# EAGLE library part GIGABYTE_14P (library Connector)
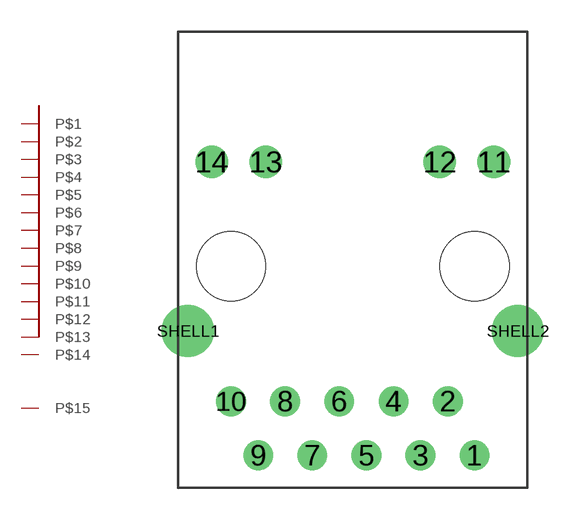
[diagram p7: symbol with the pads of GIGABYTE_RJ45; footprint GIGABYTE_RJ45]

Designator prefix -

## GIGABYTE_14P  [GIGABYTE_RJ45]
1  P$1
2  P$2
3  P$3
4  P$4
5  P$5
6  P$6
7  P$7
8  P$8
9  P$9
10  P$10
11  P$11
12  P$12
13  P$13
14  P$14
SHELL1  P$15
SHELL2  P$15

## Footprint GIGABYTE_RJ45 (pad centres in mm)
drill 0.89: 1 5.72,-8.89; 2 4.46,-6.35; 3 3.18,-8.89; 4 1.92,-6.35; 5 0.64,-8.89; 6 -0.64,-6.35; 7 -1.9,-8.89; 8 -3.18,-6.35; 9 -4.44,-8.89; 10 -5.72,-6.35
drill 1.02: 11 6.625,4.9; 12 4.085,4.9; 13 -4.085,4.9; 14 -6.625,4.9
drill 1.63: SHELL1 -7.745,-3.05; SHELL2 7.745,-3.05
hole 3.25 at -5.715,0
hole 3.25 at 5.715,0